# Altium footprint library CPWN-DFN33-10L.PcbLib: 1 footprints
Each footprint in its own frame and in the unit in brackets; x right, y up, seen from the top. Pads: shape width x height; smd on the part's side, far side on the other; paste and mask are expansions set on the pad; w line width, h text height; cw(c..) or ccw(c..) is an arc to the next point about the centre after c.
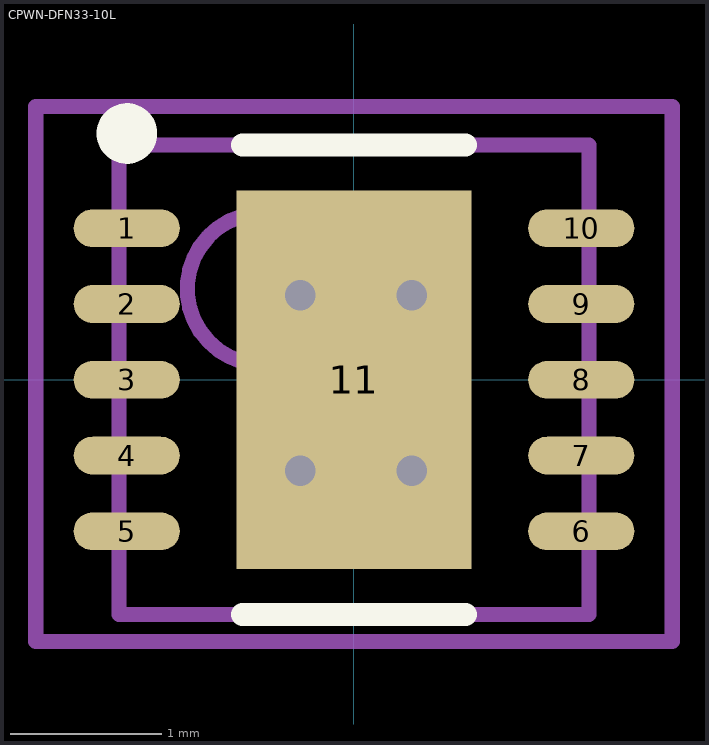
[diagram p0: the footprint, top view; thin cyan lines are the x and y axes]

## CPWN-DFN33-10L [mm] "QFN, 10-Leads, Body 3.1x3.1mm (max), Pitch 0.50mm, IPC Medium Density"
height 0.8
pads (11):
  oval 0.7x0.25 smd: 1(-1.5,1) 2(-1.5,0.5) 3(-1.5,0) 4(-1.5,-0.5) 5(-1.5,-1) 6(1.5,-1) 7(1.5,-0.5) 8(1.5,0) 9(1.5,0.5) 10(1.5,1)
  rect 1.55x2.5 smd: 11(0,0)
via -0.356,0.559 diameter 0.4 hole 0.2
via 0.381,0.559 diameter 0.4 hole 0.2
via 0.381,-0.6 diameter 0.4 hole 0.2
via -0.356,-0.6 diameter 0.4 hole 0.2
Top Overlay:
  circle w0.2: c-1.499,1.626 r0.1
  lines w0.152: -0.737,-1.549 0.737,-1.549 ; -0.737,1.549 0.737,1.549
Mechanical 13:
  circle w0.1: c-0.6,0.6 r0.5
  lines w0.1: -1.55,-1.55 1.55,-1.55 1.55,1.55 -1.55,1.55 -1.55,-1.55
Mechanical 15:
  lines w0.1: -0.5,0 0.5,0 ; 0,-0.5 0,0.5 ; -2.1,-1.727 2.1,-1.727 2.1,1.803 -2.1,1.803 -2.1,-1.727
3D body: height 0.8, standoff 0, extent -1.5,-1.5 1.5,1.5